# EAGLE library part STM32C031K6U6 (library Bauteile)
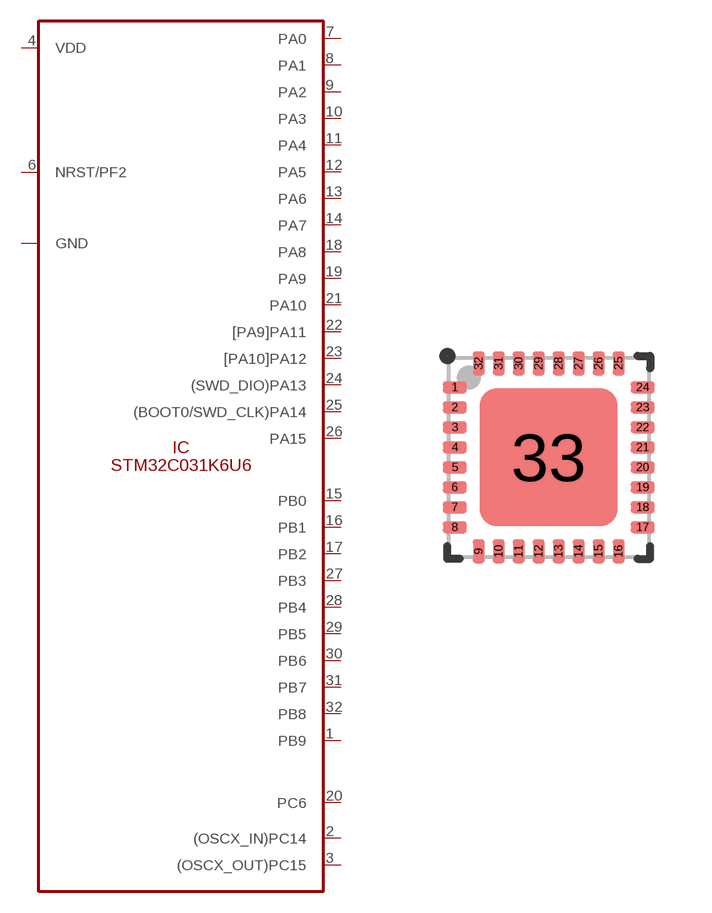
[diagram p153: symbol with the pads of UFQFPN32-0.5; footprint UFQFPN32-0.5]

Designator prefix IC

## STM32C031K6U6  [UFQFPN32-0.5]
1  PB9
2  (OSCX_IN)PC14
3  (OSCX_OUT)PC15
4  VDD
5  GND
6  NRST/PF2
7  PA0
8  PA1
9  PA2
10  PA3
11  PA4
12  PA5
13  PA6
14  PA7
15  PB0
16  PB1
17  PB2
18  PA8
19  PA9
20  PC6
21  PA10
22  [PA9]PA11
23  [PA10]PA12
24  (SWD_DIO)PA13
25  (BOOT0/SWD_CLK)PA14
26  PA15
27  PB3
28  PB4
29  PB5
30  PB6
31  PB7
32  PB8
33  GND

## Footprint UFQFPN32-0.5 (pad centres in mm)
smd 0.6 x 0.3: 1 -2.35,1.75; 2 -2.35,1.25; 3 -2.35,0.75; 4 -2.35,0.25; 5 -2.35,-0.25; 6 -2.35,-0.75; 7 -2.35,-1.25; 8 -2.35,-1.75; 17 2.35,-1.75; 18 2.35,-1.25; 19 2.35,-0.75; 20 2.35,-0.25; 21 2.35,0.25; 22 2.35,0.75; 23 2.35,1.25; 24 2.35,1.75
smd 0.3 x 0.6: 9 -1.75,-2.35; 10 -1.25,-2.35; 11 -0.75,-2.35; 12 -0.25,-2.35; 13 0.25,-2.35; 14 0.75,-2.35; 15 1.25,-2.35; 16 1.75,-2.35; 25 1.75,2.35; 26 1.25,2.35; 27 0.75,2.35; 28 0.25,2.35; 29 -0.25,2.35; 30 -0.75,2.35; 31 -1.25,2.35; 32 -1.75,2.35
smd 3.45 x 3.45: 33 0,0